# Altium schematic symbol library 脉诊.SchLib: 11 symbols
Pins are listed as number, name and electrical type; pins without a type are passive.

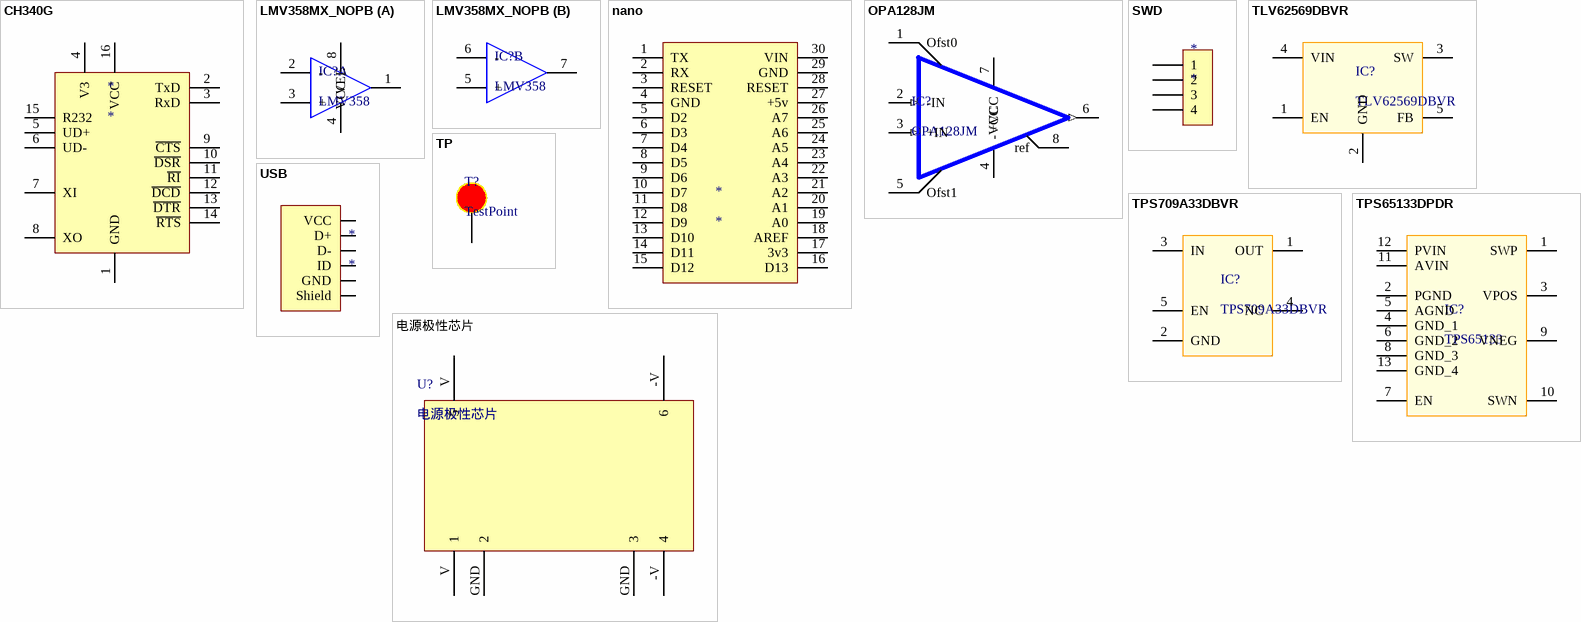
[diagram p0: symbols CH340G to 电源极性芯片]

## CH340G
designator *
pins: 1 GND, 2 TxD, 3 RxD, 4 V3, 5 UD+, 6 UD-, 7 XI, 8 XO, 9 ~{CTS}, 10 ~{DSR}, 11 ~{RI}, 12 ~{DCD}, 13 ~{DTR}, 14 ~{RTS}, 15 R232, 16 VCC

## LMV358MX_NOPB
designator IC?, comment LMV358
Integrated Circuit; Manufacturer_Name: Texas Instruments; Manufacturer_Part_Number: LMV358MX/NOPB; Datasheet Link: http://www.ti.com/lit/gpn/lmv358-n; Height: 1.75mm; Mouser Part Number: 926-LMV358MX/NOPB; Mouser Price/Stock: https://www.mouser.co.uk/ProductDetail/Texas-Instruments/LMV358MX-NOPB?qs=7lkVKPoqpbaZWqXefrgn%2Fg%3D%3D; Arrow Part Number: LMV358MX/NOPB; Arrow Price/Stock: https://www.arrow.com/en/products/lmv358mxnopb/texas-instruments?region=nac
footprint SOIC127P600X175-8N
part A pins: 1 OUTA, 2 - "INA-", 3 + "INA+", 4 VEE, 8 VCC
part B pins: 5 + "INB+", 6 - "INB-", 7 OUTB

## nano
designator *
footprint nano
pins: 1 TX, 2 RX, 3 RESET, 4 GND, 5 D2, 6 D3, 7 D4, 8 D5, 9 D6, 10 D7, 11 D8, 12 D9, 13 D10, 14 D11, 15 D12, 16 D13, 17 3v3, 18 AREF, 19 A0, 20 A1, 21 A2, 22 A3, 23 A4, 24 A5, 25 A6, 26 A7, 27 +5v, 28 RESET, 29 GND, 30 VIN

## OPA128JM
designator IC?
电荷放大器; Manufacturer_Name: Texas Instruments; Manufacturer_Part_Number: OPA128LM; Datasheet Link: https://datasheet.datasheetarchive.com/originals/distributors/SFDatasheet-6/sf-000127796.pdf; Height: 4.19mm; Mouser Part Number: 595-OPA128LM; Mouser Price/Stock: https://www.mouser.co.uk/ProductDetail/Texas-Instruments/OPA128LM?qs=xRTSnXjzBs4s%252BlGO49ONcw%3D%3D; Arrow Part Number: OPA128LM; Arrow Price/Stock: https://www.arrow.com/en/products/opa128lm/texas-instruments
footprint OPT301M
pins: 1 Ofst0 "Offset_trim", 2 -IN (in), 3 +IN (in), 4 -VCC (power), 5 Ofst1 "Offset_Trim", 6 OUT (out), 7 +VCC (power), 8 ref "substrate and case"

## SWD
designator *
pins: 4 1, 5 2, 6 3, 7 4

## TLV62569DBVR
designator IC?
Buck DC-DC; 2.5-V to 5.5-V Input Voltage Range; 95% Efficiency;Output Voltage from 0.6 V to VIN; / SOT-23-5; Manufacturer_Name: Texas Instruments; Datasheet Link: http://www.ti.com/lit/gpn/tlv62569; Height: 1.45mm; Manufacturer_Part_Number: TLV62569DBVR; Mouser Part Number: 595-TLV62569DBVR; Mouser Price/Stock: https://www.mouser.co.uk/ProductDetail/Texas-Instruments/TLV62569DBVR?qs=0C8XhJW8e4oaylc%252BzBrCmA%3D%3D; Arrow Part Number: TLV62569DBVR; Arrow Price/Stock: https://www.arrow.com/en/products/tlv62569dbvr/texas-instruments?region=nac
footprint SOT95P280X145-5N
pins: 1 EN, 2 GND, 3 SW, 4 VIN, 5 FB

## TP
designator T?, comment TestPoint
测试点
footprint TP_D1mm
pins: 9 1 "TestPoint"

## TPS709A33DBVR
designator IC?
3.3V 高CMRR LDO; Manufacturer_Name: Texas Instruments; Datasheet Link: http://www.ti.com/lit/gpn/tps709; Height: 1.45mm; Manufacturer_Part_Number: TPS709A33DBVR; Mouser Part Number: 595-TPS709A33DBVR; Mouser Price/Stock: https://www.mouser.co.uk/ProductDetail/Texas-Instruments/TPS709A33DBVR?qs=8%2FmU9qzJpL8xC3krkiti2Q%3D%3D; Arrow Part Number: TPS709A33DBVR; Arrow Price/Stock: https://www.arrow.com/en/products/tps709a33dbvr/texas-instruments?region=nac
footprint SOT95P280X145-5N
pins: 1 OUT, 2 GND, 3 IN, 4 NC, 5 EN

## TPS65133DPDR
designator IC?, comment TPS65133
±5V，250mA 双输出DC-DC电源; Manufacturer_Name: Texas Instruments; Manufacturer_Part_Number: TPS65133DPDR; Datasheet Link: http://www.ti.com/lit/ds/symlink/tps65133.pdf; Height: 0.8mm; Mouser Part Number: 595-TPS65133DPDR; Mouser Price/Stock: https://www.mouser.co.uk/ProductDetail/Texas-Instruments/TPS65133DPDR?qs=7GxONfNUZSjxiorxR5wfmg%3D%3D; Arrow Part Number: TPS65133DPDR; Arrow Price/Stock: https://www.arrow.com/en/products/tps65133dpdr/texas-instruments?region=nac; ComponentLink1Description: TI官网; ComponentLink1URL: https://www.ti.com.cn/cn/lit/ds/symlink/tps65133.pdf?ts=1670145359710&ref_url=https%253A%252F%252Fwww.ti.com.cn%252Fproduct%252Fcn%252FTPS65133
footprint SON45P300X300X80-13N-D
pins: 1 SWP, 2 PGND, 3 VPOS, 4 GND_1, 5 AGND, 6 GND_2, 7 EN, 8 GND_3, 9 VNEG, 10 SWN, 11 AVIN, 12 PVIN, 13 GND_4

## USB
designator *
pins: 0 GND, 0 Shield, 1 ID, 2 D-, 3 D+, 3 VCC

## 电源极性芯片
designator U?
footprint 电源极性反转芯片
pins: -V 4, -V 6, GND 2, GND 3, V 1, V 5